# Altium footprint library myLib_Alberto.PcbLib: 14 footprints
Each footprint in its own frame and in the unit in brackets; x right, y up, seen from the top. Pads: shape width x height; smd on the part's side, far side on the other; paste and mask are expansions set on the pad; w line width, h text height; cw(c..) or ccw(c..) is an arc to the next point about the centre after c.
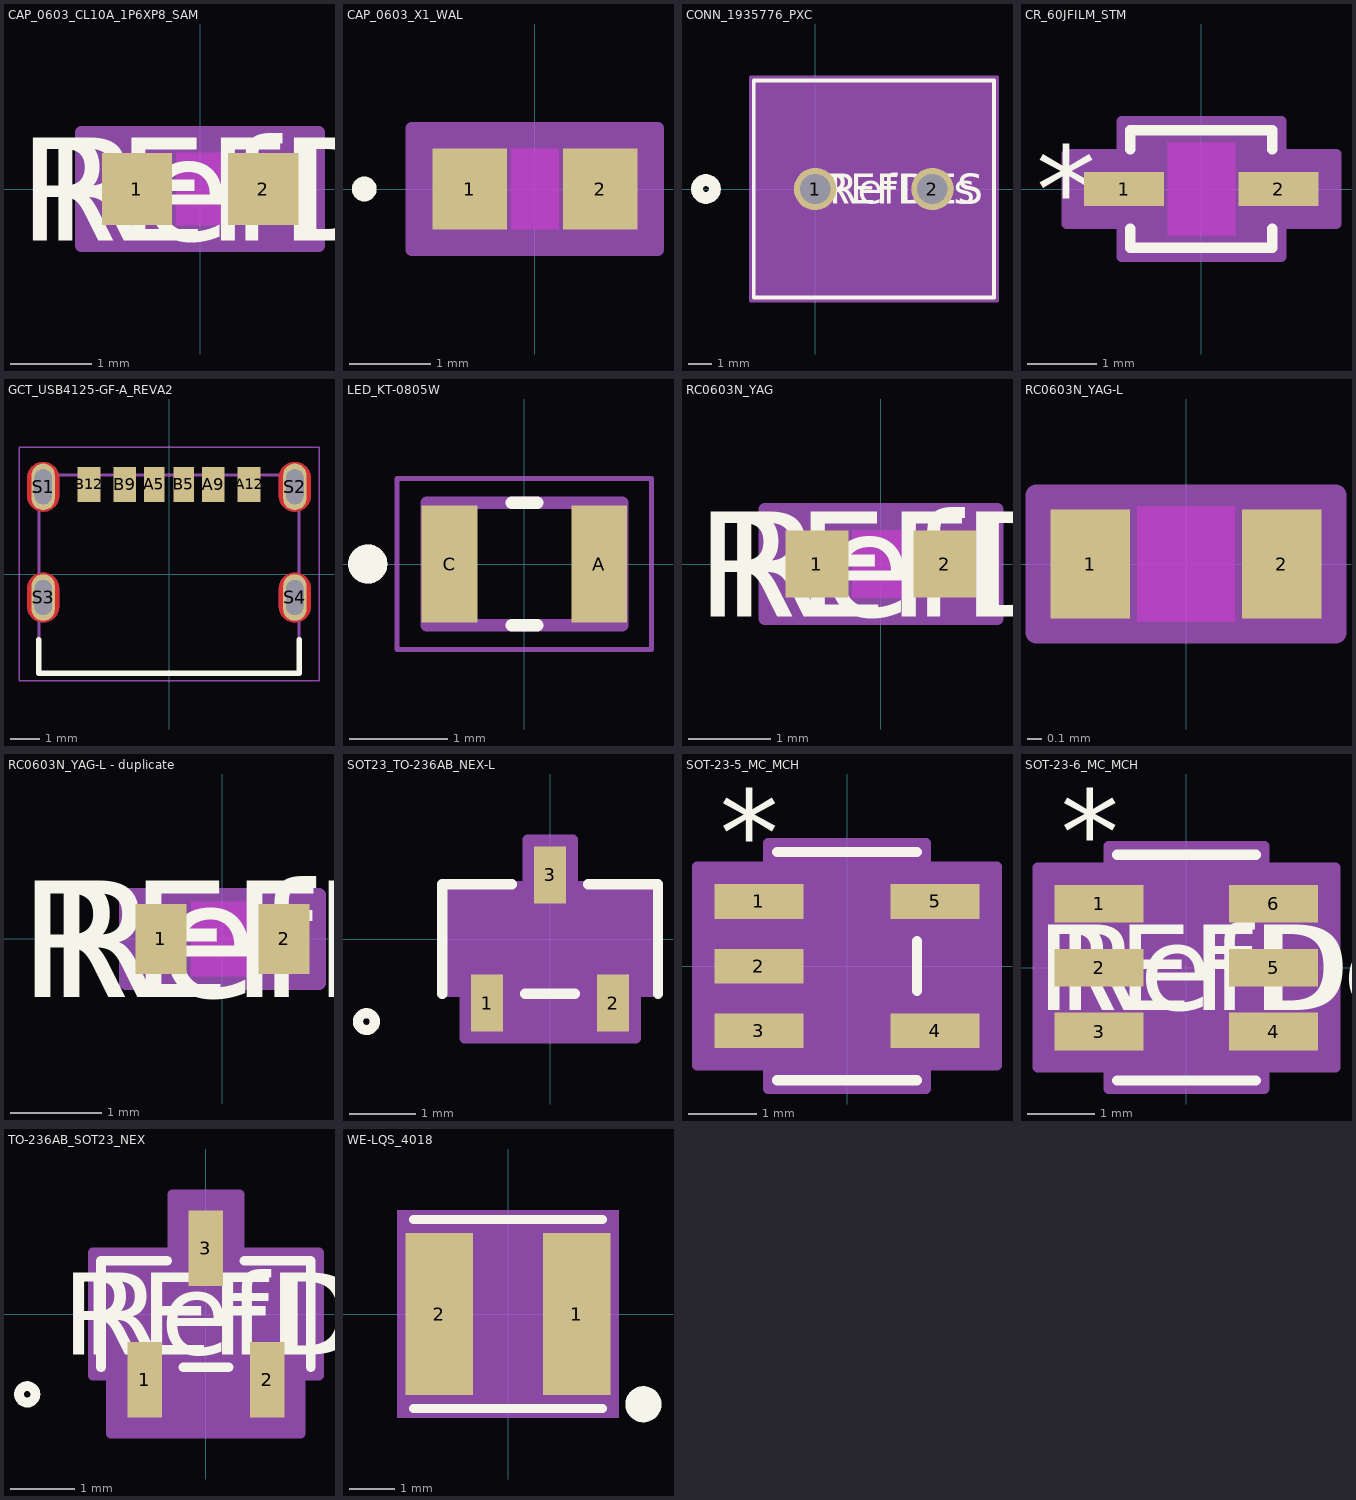
[diagram p0: the footprints below, top view; thin cyan lines are the x and y axes]

## CAP_0603_CL10A_1P6XP8_SAM [mil]
pads (2):
  rect 34x35 smd paste+0 mask+0: 1(-30.5,0) 2(30.5,0)
Top Layer keep-out:
  region: -11.5,-15.5 -11.5,15.5 11.5,15.5 11.5,-15.5
Top Overlay:
  text "REFDES" at -87.5,-25 h50
  text "RefDes" at -75,-25 h50
Keep-Out Layer:
  region: -11.5,-17.5 -11.5,17.5 11.5,17.5 11.5,-17.5
Mechanical 13:
  lines w1: -33.5,-17.5 -33.5,17.5 ; -33.5,-17.5 33.5,-17.5 ; -33.5,-17.5 -13.5,-17.5 -13.5,17.5 -33.5,17.5 ; -33.5,-17.5 -33.5,17.5 ; -33.5,17.5 33.5,17.5 ; 33.5,-17.5 33.5,17.5 ; 33.5,-17.5 33.5,17.5 ; 33.5,-17.5 13.5,-17.5 13.5,17.5 33.5,17.5
  text "RefDes2" at -87.5,-25 h50
Mechanical 15:
  region: 57.5,-27.5 -57.5,-27.5 -57.5,27.5 57.5,27.5
  lines w6: -57.5,-27.5 57.5,-27.5 57.5,27.5 -57.5,27.5 -57.5,-27.5
3D body "CAP_0603_CL10A_1P6XP8_SAM.step": height 35, standoff 0, extent -33.5,-17.48 33.5,17.48

## CAP_0603_X1_WAL [mil]
pads (2):
  rect 36x39 smd paste+0 mask+0: 1(-31.5,0) 2(31.5,0)
Top Layer keep-out:
  region: -11.5,-17.5 -11.5,17.5 11.5,17.5 11.5,-17.5
Top Overlay:
  circle w6: c-82.5,0 r3
  text ".Designator" at -137.5,-25 h50
Keep-Out Layer:
  region: -11.5,-19.5 -11.5,19.5 11.5,19.5 11.5,-19.5
Mechanical 13:
  circle w1: c-25.5,0 r3
  lines w1: -35.5,-19.5 -35.5,19.5 ; -35.5,-19.5 35.5,-19.5 ; -35.5,-19.5 -13.5,-19.5 -13.5,19.5 -35.5,19.5 ; -35.5,-19.5 -35.5,19.5 ; -35.5,19.5 35.5,19.5 ; 35.5,-19.5 35.5,19.5 ; 35.5,-19.5 35.5,19.5 ; 35.5,-19.5 13.5,-19.5 13.5,19.5 35.5,19.5
  text ".Designator" at -137.5,-25 h50
Mechanical 15:
  region: 59.5,-29.5 -59.5,-29.5 -59.5,29.5 59.5,29.5
  lines w6: -59.5,-29.5 59.5,-29.5 59.5,29.5 -59.5,29.5 -59.5,-29.5
3D body "CAP_0603_X1_WAL.step": height 39.02, standoff 0, extent -35.51,-19.49 35.51,19.49

## CONN_1935776_PXC [mil]
pads (2):
  round 71 / inner round 60 / far side round 71 hole 51 paste-35.5 mask+0: 1(0,0) 2(196.85,0)
Top Overlay:
  circle w20: c-183.43,0 r15
  lines w6: -103.43,-182.17 300.28,-182.17 300.28,182.17 -103.43,182.17 -103.43,-182.17
  text "RefDes" at 23.43,-25 h50
  text "REFDES" at 10.93,-25 h50
Bottom Overlay:
  circle w20: c-183.43,0 r15
Mechanical 13:
  circle w20: c0,0 r15
  lines w1: -98.43,-177.17 295.28,-177.17 295.28,177.17 -98.43,177.17 -98.43,-177.17
  text "RefDes2" at 10.93,-25 h50
Mechanical 15:
  region: 305.28,187.17 -108.43,187.17 -108.43,-187.17 305.28,-187.17
  lines w6: -108.43,-187.17 -108.43,187.17 305.28,187.17 305.28,-187.17 -108.43,-187.17
3D body "1935776.stp": height 531.5, standoff -161.42, extent -100.37,-179.33 330.37,175

## CR_60JFILM_STM [mil]
pads (2):
  rect 45.56x19.36 smd paste+0 mask+0: 1(-44,0) 2(44,0)
Top Overlay:
  lines w6: -40.5,-22.78 -40.5,-33.5 40.5,-33.5 40.5,-22.78 ; -40.5,22.78 -40.5,33.5 40.5,33.5 40.5,22.78
  text ".Designator" at -137.5,-25 h50
  text "*" at -94.28,-25 h50
Keep-Out Layer:
  region: -19.22,-26.5 -19.22,26.5 19.22,26.5 19.22,-26.5
Mechanical 13:
  lines w1: -35.5,-14.25 -21.25,-28.5 ; -35.5,14.25 -21.25,28.5 ; -53,-8.5 -53,8.5 -35.5,8.5 -35.5,-8.5 -53,-8.5 ; -35.5,-28.5 35.5,-28.5 35.5,28.5 -35.5,28.5 -35.5,-28.5 ; 35.5,-8.5 35.5,8.5 53,8.5 53,-8.5 35.5,-8.5
  text "*" at -38,-25 h50
  text ".Designator" at -137.5,-25 h50
Mechanical 15:
  region: -45.5,-19.68 -76.78,-19.68 -76.78,19.68 -45.5,19.68 -45.5,38.5 45.5,38.5 45.5,19.68 76.78,19.68 76.78,-19.68 45.5,-19.68 45.5,-38.5 -45.5,-38.5
  lines w6: -76.78,-19.68 -76.78,19.68 -45.5,19.68 -45.5,38.5 45.5,38.5 45.5,19.68 76.78,19.68 76.78,-19.68 45.5,-19.68 45.5,-38.5 -45.5,-38.5 -45.5,-19.68 -76.78,-19.68
3D body "CR_60JFILM_STM.step": height 45.12, standoff 0, extent -52.99,-28.5 52.99,28.5

## GCT_USB4125-GF-A_REVA2 [mm]
pads (10):
  rect 0.7x1.2 smd: A5(-0.5,3.08) B5(0.5,3.08)
  rect 0.76x1.2 smd: A9(1.52,3.08) B9(-1.52,3.08)
  rect 0.8x1.2 smd: A12(2.75,3.08) B12(-2.75,3.08)
  oval 0.8x1.6 hole 0.6 slot 1.2 at 90 deg mask+0: S1(-4.32,3) S2(4.32,3) S3(-4.32,-0.8) S4(4.32,-0.8)
Top Layer:
  region: -4.291,0.049 -4.263,0.047 -4.234,0.043 -4.206,0.038 -4.178,0.031 -4.15,0.023 -4.123,0.013 -4.096,0.002 -4.07,-0.01 -4.045,-0.024 -4.02,-0.039 -3.997,-0.055 -3.974,-0.073 -3.952,-0.091 -3.931,-0.111 -3.911,-0.132 -3.893,-0.154 -3.875,-0.177 -3.859,-0.2 -3.844,-0.225 -3.83,-0.25 -3.818,-0.276 -3.807,-0.303 -3.797,-0.33 -3.789,-0.358 -3.782,-0.386 -3.777,-0.414 -3.773,-0.443 -3.771,-0.471 -3.77,-0.5 -3.77,-1.1 -3.771,-1.129 -3.773,-1.157 -3.777,-1.186 -3.782,-1.214 -3.789,-1.242 -3.797,-1.27 -3.807,-1.297 -3.818,-1.324 -3.83,-1.35 -3.844,-1.375 -3.859,-1.4 -3.875,-1.423 -3.893,-1.446 -3.911,-1.468 -3.931,-1.489 -3.952,-1.509 -3.974,-1.527 -3.997,-1.545 -4.02,-1.561 -4.045,-1.576 -4.07,-1.59 -4.096,-1.602 -4.123,-1.613 -4.15,-1.623 -4.178,-1.631 -4.206,-1.638 -4.234,-1.643 -4.263,-1.647 -4.291,-1.649 -4.32,-1.65 -4.349,-1.649 -4.377,-1.647 -4.406,-1.643 -4.434,-1.638 -4.462,-1.631 -4.49,-1.623 -4.517,-1.613 -4.544,-1.602 -4.57,-1.59 -4.595,-1.576 -4.62,-1.561 -4.643,-1.545 -4.666,-1.527 -4.688,-1.509 -4.709,-1.489 -4.729,-1.468 -4.747,-1.446 -4.765,-1.423 -4.781,-1.4 -4.796,-1.375 -4.81,-1.35 -4.822,-1.324 -4.833,-1.297 -4.843,-1.27 -4.851,-1.242 -4.858,-1.214 -4.863,-1.186 -4.867,-1.157 -4.869,-1.129 -4.87,-1.1 -4.87,-0.5 -4.869,-0.471 -4.867,-0.443 -4.863,-0.414 -4.858,-0.386 -4.851,-0.358 -4.843,-0.33 -4.833,-0.303 -4.822,-0.276 -4.81,-0.25 -4.796,-0.225 -4.781,-0.2 -4.765,-0.177 -4.747,-0.154 -4.729,-0.132 -4.709,-0.111 -4.688,-0.091 -4.666,-0.073 -4.643,-0.055 -4.62,-0.039 -4.595,-0.024 -4.57,-0.01 -4.544,0.002 -4.517,0.013 -4.49,0.023 -4.462,0.031 -4.434,0.038 -4.406,0.043 -4.377,0.047 -4.349,0.049 -4.32,0.05
  region: 4.349,0.049 4.377,0.047 4.406,0.043 4.434,0.038 4.462,0.031 4.49,0.023 4.517,0.013 4.544,0.002 4.57,-0.01 4.595,-0.024 4.62,-0.039 4.643,-0.055 4.666,-0.073 4.688,-0.091 4.709,-0.111 4.729,-0.132 4.747,-0.154 4.765,-0.177 4.781,-0.2 4.796,-0.225 4.81,-0.25 4.822,-0.276 4.833,-0.303 4.843,-0.33 4.851,-0.358 4.858,-0.386 4.863,-0.414 4.867,-0.443 4.869,-0.471 4.87,-0.5 4.87,-1.1 4.869,-1.129 4.867,-1.157 4.863,-1.186 4.858,-1.214 4.851,-1.242 4.843,-1.27 4.833,-1.297 4.822,-1.324 4.81,-1.35 4.796,-1.375 4.781,-1.4 4.765,-1.423 4.747,-1.446 4.729,-1.468 4.709,-1.489 4.688,-1.509 4.666,-1.527 4.643,-1.545 4.62,-1.561 4.595,-1.576 4.57,-1.59 4.544,-1.602 4.517,-1.613 4.49,-1.623 4.462,-1.631 4.434,-1.638 4.406,-1.643 4.377,-1.647 4.349,-1.649 4.32,-1.65 4.291,-1.649 4.263,-1.647 4.234,-1.643 4.206,-1.638 4.178,-1.631 4.15,-1.623 4.123,-1.613 4.096,-1.602 4.07,-1.59 4.045,-1.576 4.02,-1.561 3.997,-1.545 3.974,-1.527 3.952,-1.509 3.931,-1.489 3.911,-1.468 3.893,-1.446 3.875,-1.423 3.859,-1.4 3.844,-1.375 3.83,-1.35 3.818,-1.324 3.807,-1.297 3.797,-1.27 3.789,-1.242 3.782,-1.214 3.777,-1.186 3.773,-1.157 3.771,-1.129 3.77,-1.1 3.77,-0.5 3.771,-0.471 3.773,-0.443 3.777,-0.414 3.782,-0.386 3.789,-0.358 3.797,-0.33 3.807,-0.303 3.818,-0.276 3.83,-0.25 3.844,-0.225 3.859,-0.2 3.875,-0.177 3.893,-0.154 3.911,-0.132 3.931,-0.111 3.952,-0.091 3.974,-0.073 3.997,-0.055 4.02,-0.039 4.045,-0.024 4.07,-0.01 4.096,0.002 4.123,0.013 4.15,0.023 4.178,0.031 4.206,0.038 4.234,0.043 4.263,0.047 4.291,0.049 4.32,0.05
  region: -4.291,3.849 -4.263,3.847 -4.234,3.843 -4.206,3.838 -4.178,3.831 -4.15,3.823 -4.123,3.813 -4.096,3.802 -4.07,3.79 -4.045,3.776 -4.02,3.761 -3.997,3.745 -3.974,3.727 -3.952,3.709 -3.931,3.689 -3.911,3.668 -3.893,3.646 -3.875,3.623 -3.859,3.6 -3.844,3.575 -3.83,3.55 -3.818,3.524 -3.807,3.497 -3.797,3.47 -3.789,3.442 -3.782,3.414 -3.777,3.386 -3.773,3.357 -3.771,3.329 -3.77,3.3 -3.77,2.7 -3.771,2.671 -3.773,2.643 -3.777,2.614 -3.782,2.586 -3.789,2.558 -3.797,2.53 -3.807,2.503 -3.818,2.476 -3.83,2.45 -3.844,2.425 -3.859,2.4 -3.875,2.377 -3.893,2.354 -3.911,2.332 -3.931,2.311 -3.952,2.291 -3.974,2.273 -3.997,2.255 -4.02,2.239 -4.045,2.224 -4.07,2.21 -4.096,2.198 -4.123,2.187 -4.15,2.177 -4.178,2.169 -4.206,2.162 -4.234,2.157 -4.263,2.153 -4.291,2.151 -4.32,2.15 -4.349,2.151 -4.377,2.153 -4.406,2.157 -4.434,2.162 -4.462,2.169 -4.49,2.177 -4.517,2.187 -4.544,2.198 -4.57,2.21 -4.595,2.224 -4.62,2.239 -4.643,2.255 -4.666,2.273 -4.688,2.291 -4.709,2.311 -4.729,2.332 -4.747,2.354 -4.765,2.377 -4.781,2.4 -4.796,2.425 -4.81,2.45 -4.822,2.476 -4.833,2.503 -4.843,2.53 -4.851,2.558 -4.858,2.586 -4.863,2.614 -4.867,2.643 -4.869,2.671 -4.87,2.7 -4.87,3.3 -4.869,3.329 -4.867,3.357 -4.863,3.386 -4.858,3.414 -4.851,3.442 -4.843,3.47 -4.833,3.497 -4.822,3.524 -4.81,3.55 -4.796,3.575 -4.781,3.6 -4.765,3.623 -4.747,3.646 -4.729,3.668 -4.709,3.689 -4.688,3.709 -4.666,3.727 -4.643,3.745 -4.62,3.761 -4.595,3.776 -4.57,3.79 -4.544,3.802 -4.517,3.813 -4.49,3.823 -4.462,3.831 -4.434,3.838 -4.406,3.843 -4.377,3.847 -4.349,3.849 -4.32,3.85
  region: 4.349,3.849 4.377,3.847 4.406,3.843 4.434,3.838 4.462,3.831 4.49,3.823 4.517,3.813 4.544,3.802 4.57,3.79 4.595,3.776 4.62,3.761 4.643,3.745 4.666,3.727 4.688,3.709 4.709,3.689 4.729,3.668 4.747,3.646 4.765,3.623 4.781,3.6 4.796,3.575 4.81,3.55 4.822,3.524 4.833,3.497 4.843,3.47 4.851,3.442 4.858,3.414 4.863,3.386 4.867,3.357 4.869,3.329 4.87,3.3 4.87,2.7 4.869,2.671 4.867,2.643 4.863,2.614 4.858,2.586 4.851,2.558 4.843,2.53 4.833,2.503 4.822,2.476 4.81,2.45 4.796,2.425 4.781,2.4 4.765,2.377 4.747,2.354 4.729,2.332 4.709,2.311 4.688,2.291 4.666,2.273 4.643,2.255 4.62,2.239 4.595,2.224 4.57,2.21 4.544,2.198 4.517,2.187 4.49,2.177 4.462,2.169 4.434,2.162 4.406,2.157 4.377,2.153 4.349,2.151 4.32,2.15 4.291,2.151 4.263,2.153 4.234,2.157 4.206,2.162 4.178,2.169 4.15,2.177 4.123,2.187 4.096,2.198 4.07,2.21 4.045,2.224 4.02,2.239 3.997,2.255 3.974,2.273 3.952,2.291 3.931,2.311 3.911,2.332 3.893,2.354 3.875,2.377 3.859,2.4 3.844,2.425 3.83,2.45 3.818,2.476 3.807,2.503 3.797,2.53 3.789,2.558 3.782,2.586 3.777,2.614 3.773,2.643 3.771,2.671 3.77,2.7 3.77,3.3 3.771,3.329 3.773,3.357 3.777,3.386 3.782,3.414 3.789,3.442 3.797,3.47 3.807,3.497 3.818,3.524 3.83,3.55 3.844,3.575 3.859,3.6 3.875,3.623 3.893,3.646 3.911,3.668 3.931,3.689 3.952,3.709 3.974,3.727 3.997,3.745 4.02,3.761 4.045,3.776 4.07,3.79 4.096,3.802 4.123,3.813 4.15,3.823 4.178,3.831 4.206,3.838 4.234,3.843 4.263,3.847 4.291,3.849 4.32,3.85
Bottom Layer:
  region: -4.291,0.049 -4.263,0.047 -4.234,0.043 -4.206,0.038 -4.178,0.031 -4.15,0.023 -4.123,0.013 -4.096,0.002 -4.07,-0.01 -4.045,-0.024 -4.02,-0.039 -3.997,-0.055 -3.974,-0.073 -3.952,-0.091 -3.931,-0.111 -3.911,-0.132 -3.893,-0.154 -3.875,-0.177 -3.859,-0.2 -3.844,-0.225 -3.83,-0.25 -3.818,-0.276 -3.807,-0.303 -3.797,-0.33 -3.789,-0.358 -3.782,-0.386 -3.777,-0.414 -3.773,-0.443 -3.771,-0.471 -3.77,-0.5 -3.77,-1.1 -3.771,-1.129 -3.773,-1.157 -3.777,-1.186 -3.782,-1.214 -3.789,-1.242 -3.797,-1.27 -3.807,-1.297 -3.818,-1.324 -3.83,-1.35 -3.844,-1.375 -3.859,-1.4 -3.875,-1.423 -3.893,-1.446 -3.911,-1.468 -3.931,-1.489 -3.952,-1.509 -3.974,-1.527 -3.997,-1.545 -4.02,-1.561 -4.045,-1.576 -4.07,-1.59 -4.096,-1.602 -4.123,-1.613 -4.15,-1.623 -4.178,-1.631 -4.206,-1.638 -4.234,-1.643 -4.263,-1.647 -4.291,-1.649 -4.32,-1.65 -4.349,-1.649 -4.377,-1.647 -4.406,-1.643 -4.434,-1.638 -4.462,-1.631 -4.49,-1.623 -4.517,-1.613 -4.544,-1.602 -4.57,-1.59 -4.595,-1.576 -4.62,-1.561 -4.643,-1.545 -4.666,-1.527 -4.688,-1.509 -4.709,-1.489 -4.729,-1.468 -4.747,-1.446 -4.765,-1.423 -4.781,-1.4 -4.796,-1.375 -4.81,-1.35 -4.822,-1.324 -4.833,-1.297 -4.843,-1.27 -4.851,-1.242 -4.858,-1.214 -4.863,-1.186 -4.867,-1.157 -4.869,-1.129 -4.87,-1.1 -4.87,-0.5 -4.869,-0.471 -4.867,-0.443 -4.863,-0.414 -4.858,-0.386 -4.851,-0.358 -4.843,-0.33 -4.833,-0.303 -4.822,-0.276 -4.81,-0.25 -4.796,-0.225 -4.781,-0.2 -4.765,-0.177 -4.747,-0.154 -4.729,-0.132 -4.709,-0.111 -4.688,-0.091 -4.666,-0.073 -4.643,-0.055 -4.62,-0.039 -4.595,-0.024 -4.57,-0.01 -4.544,0.002 -4.517,0.013 -4.49,0.023 -4.462,0.031 -4.434,0.038 -4.406,0.043 -4.377,0.047 -4.349,0.049 -4.32,0.05
  region: 4.349,0.049 4.377,0.047 4.406,0.043 4.434,0.038 4.462,0.031 4.49,0.023 4.517,0.013 4.544,0.002 4.57,-0.01 4.595,-0.024 4.62,-0.039 4.643,-0.055 4.666,-0.073 4.688,-0.091 4.709,-0.111 4.729,-0.132 4.747,-0.154 4.765,-0.177 4.781,-0.2 4.796,-0.225 4.81,-0.25 4.822,-0.276 4.833,-0.303 4.843,-0.33 4.851,-0.358 4.858,-0.386 4.863,-0.414 4.867,-0.443 4.869,-0.471 4.87,-0.5 4.87,-1.1 4.869,-1.129 4.867,-1.157 4.863,-1.186 4.858,-1.214 4.851,-1.242 4.843,-1.27 4.833,-1.297 4.822,-1.324 4.81,-1.35 4.796,-1.375 4.781,-1.4 4.765,-1.423 4.747,-1.446 4.729,-1.468 4.709,-1.489 4.688,-1.509 4.666,-1.527 4.643,-1.545 4.62,-1.561 4.595,-1.576 4.57,-1.59 4.544,-1.602 4.517,-1.613 4.49,-1.623 4.462,-1.631 4.434,-1.638 4.406,-1.643 4.377,-1.647 4.349,-1.649 4.32,-1.65 4.291,-1.649 4.263,-1.647 4.234,-1.643 4.206,-1.638 4.178,-1.631 4.15,-1.623 4.123,-1.613 4.096,-1.602 4.07,-1.59 4.045,-1.576 4.02,-1.561 3.997,-1.545 3.974,-1.527 3.952,-1.509 3.931,-1.489 3.911,-1.468 3.893,-1.446 3.875,-1.423 3.859,-1.4 3.844,-1.375 3.83,-1.35 3.818,-1.324 3.807,-1.297 3.797,-1.27 3.789,-1.242 3.782,-1.214 3.777,-1.186 3.773,-1.157 3.771,-1.129 3.77,-1.1 3.77,-0.5 3.771,-0.471 3.773,-0.443 3.777,-0.414 3.782,-0.386 3.789,-0.358 3.797,-0.33 3.807,-0.303 3.818,-0.276 3.83,-0.25 3.844,-0.225 3.859,-0.2 3.875,-0.177 3.893,-0.154 3.911,-0.132 3.931,-0.111 3.952,-0.091 3.974,-0.073 3.997,-0.055 4.02,-0.039 4.045,-0.024 4.07,-0.01 4.096,0.002 4.123,0.013 4.15,0.023 4.178,0.031 4.206,0.038 4.234,0.043 4.263,0.047 4.291,0.049 4.32,0.05
  region: -4.291,3.849 -4.263,3.847 -4.234,3.843 -4.206,3.838 -4.178,3.831 -4.15,3.823 -4.123,3.813 -4.096,3.802 -4.07,3.79 -4.045,3.776 -4.02,3.761 -3.997,3.745 -3.974,3.727 -3.952,3.709 -3.931,3.689 -3.911,3.668 -3.893,3.646 -3.875,3.623 -3.859,3.6 -3.844,3.575 -3.83,3.55 -3.818,3.524 -3.807,3.497 -3.797,3.47 -3.789,3.442 -3.782,3.414 -3.777,3.386 -3.773,3.357 -3.771,3.329 -3.77,3.3 -3.77,2.7 -3.771,2.671 -3.773,2.643 -3.777,2.614 -3.782,2.586 -3.789,2.558 -3.797,2.53 -3.807,2.503 -3.818,2.476 -3.83,2.45 -3.844,2.425 -3.859,2.4 -3.875,2.377 -3.893,2.354 -3.911,2.332 -3.931,2.311 -3.952,2.291 -3.974,2.273 -3.997,2.255 -4.02,2.239 -4.045,2.224 -4.07,2.21 -4.096,2.198 -4.123,2.187 -4.15,2.177 -4.178,2.169 -4.206,2.162 -4.234,2.157 -4.263,2.153 -4.291,2.151 -4.32,2.15 -4.349,2.151 -4.377,2.153 -4.406,2.157 -4.434,2.162 -4.462,2.169 -4.49,2.177 -4.517,2.187 -4.544,2.198 -4.57,2.21 -4.595,2.224 -4.62,2.239 -4.643,2.255 -4.666,2.273 -4.688,2.291 -4.709,2.311 -4.729,2.332 -4.747,2.354 -4.765,2.377 -4.781,2.4 -4.796,2.425 -4.81,2.45 -4.822,2.476 -4.833,2.503 -4.843,2.53 -4.851,2.558 -4.858,2.586 -4.863,2.614 -4.867,2.643 -4.869,2.671 -4.87,2.7 -4.87,3.3 -4.869,3.329 -4.867,3.357 -4.863,3.386 -4.858,3.414 -4.851,3.442 -4.843,3.47 -4.833,3.497 -4.822,3.524 -4.81,3.55 -4.796,3.575 -4.781,3.6 -4.765,3.623 -4.747,3.646 -4.729,3.668 -4.709,3.689 -4.688,3.709 -4.666,3.727 -4.643,3.745 -4.62,3.761 -4.595,3.776 -4.57,3.79 -4.544,3.802 -4.517,3.813 -4.49,3.823 -4.462,3.831 -4.434,3.838 -4.406,3.843 -4.377,3.847 -4.349,3.849 -4.32,3.85
  region: 4.349,3.849 4.377,3.847 4.406,3.843 4.434,3.838 4.462,3.831 4.49,3.823 4.517,3.813 4.544,3.802 4.57,3.79 4.595,3.776 4.62,3.761 4.643,3.745 4.666,3.727 4.688,3.709 4.709,3.689 4.729,3.668 4.747,3.646 4.765,3.623 4.781,3.6 4.796,3.575 4.81,3.55 4.822,3.524 4.833,3.497 4.843,3.47 4.851,3.442 4.858,3.414 4.863,3.386 4.867,3.357 4.869,3.329 4.87,3.3 4.87,2.7 4.869,2.671 4.867,2.643 4.863,2.614 4.858,2.586 4.851,2.558 4.843,2.53 4.833,2.503 4.822,2.476 4.81,2.45 4.796,2.425 4.781,2.4 4.765,2.377 4.747,2.354 4.729,2.332 4.709,2.311 4.688,2.291 4.666,2.273 4.643,2.255 4.62,2.239 4.595,2.224 4.57,2.21 4.544,2.198 4.517,2.187 4.49,2.177 4.462,2.169 4.434,2.162 4.406,2.157 4.377,2.153 4.349,2.151 4.32,2.15 4.291,2.151 4.263,2.153 4.234,2.157 4.206,2.162 4.178,2.169 4.15,2.177 4.123,2.187 4.096,2.198 4.07,2.21 4.045,2.224 4.02,2.239 3.997,2.255 3.974,2.273 3.952,2.291 3.931,2.311 3.911,2.332 3.893,2.354 3.875,2.377 3.859,2.4 3.844,2.425 3.83,2.45 3.818,2.476 3.807,2.503 3.797,2.53 3.789,2.558 3.782,2.586 3.777,2.614 3.773,2.643 3.771,2.671 3.77,2.7 3.77,3.3 3.771,3.329 3.773,3.357 3.777,3.386 3.782,3.414 3.789,3.442 3.797,3.47 3.807,3.497 3.818,3.524 3.83,3.55 3.844,3.575 3.859,3.6 3.875,3.623 3.893,3.646 3.911,3.668 3.931,3.689 3.952,3.709 3.974,3.727 3.997,3.745 4.02,3.761 4.045,3.776 4.07,3.79 4.096,3.802 4.123,3.813 4.15,3.823 4.178,3.831 4.206,3.838 4.234,3.843 4.263,3.847 4.291,3.849 4.32,3.85
Top Overlay:
  lines w0.2: -4.47,-2.25 -4.47,-3.4 4.47,-3.4 4.47,-2.25
Top Solder:
  drawing of 4 lines, arcs and shapes, not listed
Bottom Solder:
  drawing of 4 lines, arcs and shapes, not listed
Mechanical 13:
  lines w0.1: -4.47,-3.4 4.47,-3.4 4.47,3.4 -4.47,3.4 -4.47,-3.4
Mechanical 15:
  lines w0.05: -5.15,-3.65 5.15,-3.65 5.15,4.35 -5.15,4.35 -5.15,-3.65
3D body "usb4125-gf-a.stp": height 3.27, standoff -0.99, extent -4.47,-3.344 4.47,3.556

## LED_KT-0805W [mm]
height 0.8
pads (2):
  rect 0.57x1.2 smd: A(0.765,0) C(-0.765,0)
Top Overlay:
  circle w0.2: c-1.6,0 r0.1
  lines w0.127: -0.13,-0.625 0.13,-0.625 ; -0.13,0.625 0.13,0.625
Mechanical 13:
  circle w0.2: c-1.6,0 r0.1
  lines w0.127: -1,-0.625 -1,0.625 1,0.625 1,-0.625 -1,-0.625
Mechanical 15:
  lines w0.05: -1.3,-0.875 -1.3,0.875 1.3,0.875 1.3,-0.875 -1.3,-0.875
3D body "step_temp.STEP": height 0.8, standoff 0, extent -1,-0.625 1,0.625

## RC0603N_YAG [mil]
pads (2):
  rect 29.78x32 smd paste+0 mask+0: 1(-30.39,0) 2(30.39,0)
Top Layer keep-out:
  region: -13.5,-14 -13.5,14 13.5,14 13.5,-14
Top Overlay:
  text "RefDes" at -75,-25 h50
  text "REFDES" at -87.5,-25 h50
Keep-Out Layer:
  region: -13.5,-16 -13.5,16 13.5,16 13.5,-16
Mechanical 13:
  lines w1: -31.5,-16 -31.5,16 ; -31.5,-16 -15.5,-16 -15.5,16 -31.5,16 ; -31.5,-16 31.5,-16 ; -31.5,-16 -31.5,16 ; -31.5,16 31.5,16 ; 31.5,-16 15.5,-16 15.5,16 31.5,16 ; 31.5,-16 31.5,16 ; 31.5,-16 31.5,16
  text "RefDes2" at -87.5,-25 h50
Mechanical 15:
  region: 55.28,-26 -55.28,-26 -55.28,26 55.28,26
  lines w6: -55.28,-26 -55.28,26 55.28,26 55.28,-26 -55.28,-26
3D body "RC0603N_YAG.step": height 27.99, standoff 0, extent -31.5,-15.98 31.5,15.98

## RC0603N_YAG-L [mil]
pads (2):
  rect 21.91x30.03 smd paste+0 mask+0: 1(-26.45,0) 2(26.45,0)
Top Layer keep-out:
  region: -13.5,-14 -13.5,14 13.5,14 13.5,-14
Top Overlay:
  text ".Designator" at -137.5,-25 h50
Keep-Out Layer:
  region: -13.5,-16 -13.5,16 13.5,16 13.5,-16
Mechanical 13:
  lines w1: -31.5,-16 -31.5,16 ; -31.5,-16 31.5,-16 ; -31.5,-16 -15.5,-16 -15.5,16 -31.5,16 ; -31.5,-16 -31.5,16 ; -31.5,16 31.5,16 ; 31.5,-16 31.5,16 ; 31.5,-16 31.5,16 ; 31.5,-16 15.5,-16 15.5,16 31.5,16
  text ".Designator" at -137.5,-25 h50
Mechanical 15:
  region: 41.41,-19.02 -41.41,-19.02 -41.41,19.02 41.41,19.02
  lines w6: -41.41,-19.02 41.41,-19.02 41.41,19.02 -41.41,19.02 -41.41,-19.02
3D body "RC0603N_YAG.step": height 27.99, standoff 0, extent -31.5,-15.98 31.5,15.98

## RC0603N_YAG-L - duplicate [mil]
pads (2):
  rect 22x30 smd paste+0 mask+0: 1(-26.5,0) 2(26.5,0)
Top Layer keep-out:
  region: -13.5,-14 -13.5,14 13.5,14 13.5,-14
Top Overlay:
  text "REFDES" at -87.5,-25 h50
  text "RefDes" at -75,-25 h50
Keep-Out Layer:
  region: -13.5,-16 -13.5,16 13.5,16 13.5,-16
Mechanical 13:
  lines w1: -31.5,-16 -31.5,16 ; -31.5,-16 31.5,-16 ; -31.5,-16 -15.5,-16 -15.5,16 -31.5,16 ; -31.5,-16 -31.5,16 ; -31.5,16 31.5,16 ; 31.5,-16 31.5,16 ; 31.5,-16 31.5,16 ; 31.5,-16 15.5,-16 15.5,16 31.5,16
  text "RefDes2" at -87.5,-25 h50
Mechanical 15:
  region: 41.5,-19 -41.5,-19 -41.5,19 41.5,19
  lines w6: -41.5,-19 41.5,-19 41.5,19 -41.5,19 -41.5,-19
3D body "RC0603N_YAG.step": height 27.99, standoff 0, extent -31.5,-15.98 31.5,15.98

## SOT23_TO-236AB_NEX-L [mil]
pads (3):
  rect 19x34 smd paste+0 mask+0: 1(-37.4,-38) 2(37.4,-38) 3(0,38)
Top Overlay:
  circle w6: c-109,-49 r5
  lines w6: -64,-32.5 -64,32.5 -22.6,32.5 ; -14.8,-32.5 14.8,-32.5 ; 22.6,32.5 64,32.5 64,-32.5
  text ".Designator" at -137.5,-25 h50
Mechanical 13:
  circle w1: c-49,-17.5 r5
  lines w1: -59,-27.5 -59,27.5 59,27.5 59,-27.5 -59,-27.5 ; -46.9,-49 -27.9,-49 -27.9,-27.5 -46.9,-27.5 -46.9,-49 ; -9.5,27.5 -9.5,49 9.5,49 9.5,27.5 -9.5,27.5 ; 27.9,-49 46.9,-49 46.9,-27.5 27.9,-27.5 27.9,-49
  text ".Designator" at -137.5,-25 h50
Mechanical 15:
  region: 59,-27.5 -59,-27.5 -59,27.5 59,27.5
  region: -63,-31.5 -63,31.5 -13.5,31.5 -13.5,59 13.5,59 13.5,31.5 63,31.5 63,-31.5 50.9,-31.5 50.9,-59 -50.9,-59 -50.9,-31.5
  lines w6: -63,-31.5 -50.9,-31.5 -50.9,-59 50.9,-59 50.9,-31.5 63,-31.5 63,31.5 13.5,31.5 13.5,59 -13.5,59 -13.5,31.5 -63,31.5 -63,-31.5
3D body "SOT23_TO-236AB_NEX.step": height 43.11, standoff 0, extent -59.02,-49.02 59.02,49.02

## SOT-23-5_MC_MCH [mil]
pads (5):
  rect 51.56x20 smd paste+0 mask+0: 1(-51,37.4) 2(-51,0) 3(-51,-37.4) 4(51,-37.4) 5(51,37.4)
Top Overlay:
  lines w6: -40.5,-66 40.5,-66 ; -40.5,66 40.5,66 ; 40.5,-14.3 40.5,14.3
  text ".Designator" at -137.5,-25 h50
  text "*" at -73.5,52.4 h50
Mechanical 13:
  lines w1: -12,61 ccw(c0,61) 12,61 ; -63,-47.4 -35.5,-47.4 -35.5,-27.4 -63,-27.4 -63,-47.4 ; -63,-10 -35.5,-10 -35.5,10 -63,10 -63,-10 ; -63,27.4 -35.5,27.4 -35.5,47.4 -63,47.4 -63,27.4 ; -35.5,-61 -35.5,61 35.5,61 35.5,-61 -35.5,-61 ; 35.5,-47.4 63,-47.4 63,-27.4 35.5,-27.4 35.5,-47.4 ; 35.5,27.4 63,27.4 63,47.4 35.5,47.4 35.5,27.4
  text "*" at -38,14.4 h50
  text ".Designator" at -137.5,-25 h50
Mechanical 15:
  region: 45.5,-71 -45.5,-71 -45.5,-57.4 -86.78,-57.4 -86.78,57.4 -45.5,57.4 -45.5,71 45.5,71 45.5,57.4 86.78,57.4 86.78,-57.4 45.5,-57.4
  lines w6: -86.78,-57.4 -86.78,57.4 -45.5,57.4 -45.5,71 45.5,71 45.5,57.4 86.78,57.4 86.78,-57.4 45.5,-57.4 45.5,-71 -45.5,-71 -45.5,-57.4 -86.78,-57.4
3D body "SOT-23-5_MC_MCH.step": height 57.09, standoff 0, extent -62.99,-60.98 62.99,60.98

## SOT-23-6_MC_MCH [mil]
pads (6):
  rect 52x22 smd paste+0 mask+0: 1(-51,37.4) 2(-51,0) 3(-51,-37.4) 4(51,-37.4) 5(51,0) 6(51,37.4)
Top Overlay:
  lines w6: -40.5,-66 40.5,-66 ; -40.5,66 40.5,66
  text "REFDES" at -87.5,-25 h50
  text "*" at -73.5,54.4 h50
  text "RefDes" at -75,-25 h50
Mechanical 13:
  lines w0: -12,61 ccw(c0,61) 12,61
  lines w1: -63,-47.4 -63,-27.4 -35.5,-27.4 -35.5,-47.4 -63,-47.4 ; -63,-10 -63,10 -35.5,10 -35.5,-10 -63,-10 ; -63,27.4 -63,47.4 -35.5,47.4 -35.5,27.4 -63,27.4 ; -35.5,-61 35.5,-61 35.5,61 -35.5,61 -35.5,-61 ; 35.5,-47.4 35.5,-27.4 63,-27.4 63,-47.4 35.5,-47.4 ; 35.5,-10 35.5,10 63,10 63,-10 35.5,-10 ; 35.5,27.4 35.5,47.4 63,47.4 63,27.4 35.5,27.4
  text "*" at -33,8 h50
  text "RefDes2" at -87.5,-25 h50
Mechanical 15:
  region: -45.5,-58.4 -87,-58.4 -87,58.4 -45.5,58.4 -45.5,71 45.5,71 45.5,58.4 87,58.4 87,-58.4 45.5,-58.4 45.5,-71 -45.5,-71
  lines w6: -87,-58.4 -87,58.4 -45.5,58.4 -45.5,71 45.5,71 45.5,58.4 87,58.4 87,-58.4 45.5,-58.4 45.5,-71 -45.5,-71 -45.5,-58.4 -87,-58.4
3D body "SOT-23-6_MC_MCH.step": height 57.2, standoff 0, extent -62.99,-60.98 62.99,60.98

## TO-236AB_SOT23_NEX [mil]
pads (3):
  rect 21x46 smd paste+0 mask+0: 1(-37.4,-40) 2(37.4,-40) 3(0,40)
Top Overlay:
  circle w6: c-109,-49 r5
  lines w6: -64,-32.5 -64,32.5 -23.6,32.5 ; -13.8,-32.5 13.8,-32.5 ; 23.6,32.5 64,32.5 64,-32.5
  text "RefDes" at -75,-25 h50
  text "REFDES" at -87.5,-25 h50
Mechanical 13:
  circle w0: c-49,-17.5 r5
  lines w1: -59,-27.5 -59,27.5 59,27.5 59,-27.5 -59,-27.5 ; -46.9,-49 -27.9,-49 -27.9,-27.5 -46.9,-27.5 -46.9,-49 ; -9.5,27.5 -9.5,49 9.5,49 9.5,27.5 -9.5,27.5 ; 27.9,-49 46.9,-49 46.9,-27.5 27.9,-27.5 27.9,-49
  text "RefDes2" at -87.5,-25 h50
Mechanical 15:
  region: 59,-27.5 -59,-27.5 -59,27.5 59,27.5
  region: -69,-37.5 -69,37.5 -20.5,37.5 -20.5,73 20.5,73 20.5,37.5 69,37.5 69,-37.5 57.9,-37.5 57.9,-73 -57.9,-73 -57.9,-37.5
  lines w6: -69,-37.5 -57.9,-37.5 -57.9,-73 57.9,-73 57.9,-37.5 69,-37.5 69,37.5 20.5,37.5 20.5,73 -20.5,73 -20.5,37.5 -69,37.5 -69,-37.5
3D body "TO-236AB_SOT23_NEX.step": height 43.11, standoff 0, extent -59.02,-49.02 59.02,49.02

## WE-LQS_4018 [mm]
pads (2):
  rect 1.5x3.6 smd: 1(1.525,0) 2(-1.525,0)
Top Overlay:
  circle w0.4: c3,-2 r0.2
  lines w0.2: -2.1,-2.1 2.1,-2.1 ; -2.1,2.1 2.1,2.1
Mechanical 13:
  lines w0.1: -2,-2 -2,2 2,2 2,-2 -2,-2
Mechanical 15:
  region: 2.45,-2.3 -2.45,-2.3 -2.45,2.3 2.45,2.3
3D body "Download_STP_WE-LQS-4018_rev1.stp": height 1.81, standoff 0.01, extent -2.032,-2 1.968,2